# Altium schematic symbol library RoBeast_Schematic_Library.SchLib: 131 symbols (part 5 of 5)
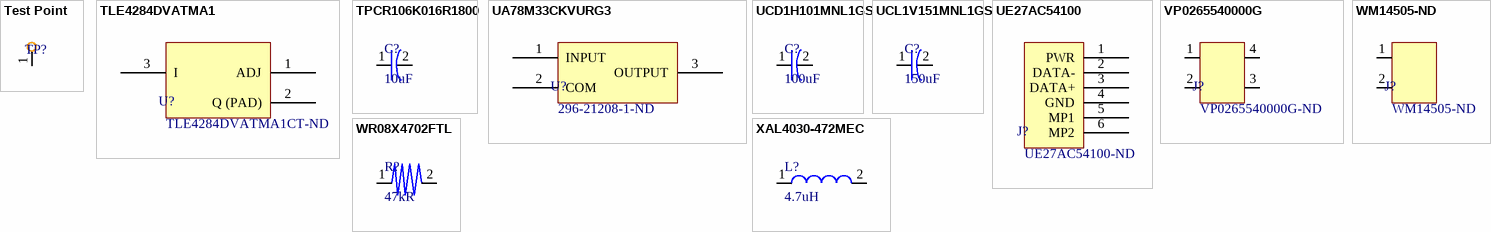
[diagram p7: symbols Test Point to XAL4030-472MEC]

## TLE4284DVATMA1
designator U?, comment Supplier Part Number 1: TLE4284DVATMA1CT-ND  (hidden comment: Linear Regulator)
Adjustable Positive LDO Regulator, 1.25V Min, 35V Max, 1.4V Dropout, BIPolar, PSSO3; Manufacturer: Infineon; Manufacturer Part Number: TLE4284DV; Package Body Material: Plastic; Input-Output Voltage Differential-Max: 40V; Input-Output Voltage Differential-Min: 3V; Number of Functions: 1; Regulator Type: ADJUSTABLE POSITIVE SINGLE OUTPUT LDO REGULATOR; Dropout Voltage1-Nom: 2.2V; Line Regulation-Max (%/V): 0.027; Load Regulation-Max(%): 1.5%; Output Current1-Max: 800mA; Package Equivalence Code: SMSIP3H,.38,90TB; Qualification Status: Not Qualified; Supplier 1: Digikey; RoHS: Yes; Category: Uncategorized; Stock 1: 11903; Pricing 1: 1=1.9, 10=1.706, 25=1.6096, 100=1.3712, 250=1.28756, 500=1.1266, 1000=0.93347 (USD); Package Code: TO-252; Number of Pins: 3; Package Shape: Rectangular; Terminal Finish: Tin; Dropout Voltage1-Max: 1.4V; Operating Temperature, TJ-Max: 150°C; Operating Temperature, TJ-Min: -40°C; Output Voltage1-Min: 1.25V; Package Style: SMALL OUTLINEMeter; Surface Mount: Yes; Terminal Form: Gull Wing; Terminal Position: SINGLE; JESD-609 Code: e3; Adjustability: ADJUSTABLE; Moisture Sensitivity Level: 1; Number of Outputs: 1; Output Voltage1-Max: 35V; Peak Reflow Temperature (Cel): 260°C; Technology: BIPOLAR; Length: 6.5mm; Width: 6.22mm; Height - Seated (Max): 2.35mm; Terminal Pitch: 2.28mm; Reach SVHC Compliant: No; RoHS Compliant: Yes; ComponentLink1URL: https://datasheet.ciiva.com:443/pdfs/VipMasterIC/IC/INFN/INFNS12905/INFNS12905-1.pdf?src-supplier=IHS+Markit; ComponentLink1Description: https://datasheet.ciiva.com:443/pdfs/VipMasterIC/IC/INFN/INFNS12905/INFNS12905-1.pdf?src-supplier=IHS+Markit; ComponentLink2URL: https://datasheet.ciiva.com/41439/001183750-da-01-en-ic-reg-ldo-adj-1a-tle4284dv-to-252-3-inf-41439516.pdf?src-supplier=Conrad; ComponentLink2Description: https://datasheet.ciiva.com/41439/001183750-da-01-en-ic-reg-ldo-adj-1a-tle4284dv-to-252-3-inf-41439516.pdf?src-supplier=Conrad; ComponentLink3URL: https://datasheet.ciiva.com/2049/infineon-tle4284-ds-v02-01-en-2049124.pdf?src-supplier=Digikey; ComponentLink3Description: https://datasheet.ciiva.com/2049/infineon-tle4284-ds-v02-01-en-2049124.pdf?src-supplier=Digikey; ComponentLink4URL: https://datasheet.ciiva.com/2049/infineon-tle4284-ds-v02-01-en-2049125.pdf?src-supplier=Digikey; ComponentLink4Description: https://datasheet.ciiva.com/2049/infineon-tle4284-ds-v02-01-en-2049125.pdf?src-supplier=Digikey; ComponentLink5URL: https://datasheet.ciiva.com/2049/infineon-tle4284-ds-v02-01-en-2049123.pdf?src-supplier=Digikey; ComponentLink5Description: https://datasheet.ciiva.com/2049/infineon-tle4284-ds-v02-01-en-2049123.pdf?src-supplier=Digikey
footprint TLE4284DVATMA1
pins: 1 ADJ, 2 Q (PAD), 3 I

## TPCR106K016R1800
designator C?, comment 10uF
Tantalum Capacitor, Polarized, Tantalum (dry/solid), 16V, 10% +Tol, 10% -Tol, 10uF, Surface Mount, 0805; Manufacturer: Kyocera AVX; Manufacturer Part Number: TPCR106K016R1800; ESR (Equivalent Series Resistance): 1.8R; Leakage Current: 1.6uA; Ripple Current: 142mA; Tan Delta: 0.1; Supplier 1: Digikey; RoHS: Yes; Category: Tantalum Capacitors; Stock 1: 25365; Pricing 1: 1=3.12, 10=2.394, 50=2.1994, 100=1.8236, 500=1.46622, 1000=1.28295 (USD); Mount: Surface Mount; Number of Pins: 2; Dielectric Material: Tantalum; Package Shape: Rectangular; Size Code: 0805; Terminal Finish: Tin; Min Operating Temperature: -55°C; Max Operating Temperature: 125°C; JESD-609 Code: e3; Polarity: Polarized; Capacitance: 10uF; Capacitor Type: Tantalum; Negative Tolerance: 10%; Package Style: SMTMeter; Packaging: Tape and Reel; Positive Tolerance: 10%; Rated DC Voltage (URdc): 16V; Termination: Wraparound; Length: 2mm; Width: 1.35mm; Height: 1.35mm; Reach SVHC Compliant: Yes; RoHS Compliant: Yes; ComponentLink1URL: https://datasheet.ciiva.com:443/pdfs/VipMasterIC/IC/AVXC/AVXC-S-A0008508031/AVXC-S-A0008508031-1.pdf?src-supplier=IHS+Markit; ComponentLink1Description: https://datasheet.ciiva.com:443/pdfs/VipMasterIC/IC/AVXC/AVXC-S-A0008508031/AVXC-S-A0008508031-1.pdf?src-supplier=IHS+Markit; ComponentLink2URL: https://datasheet.ciiva.com/29504/tpc-29504093.pdf?src-supplier=Digikey; ComponentLink2Description: https://datasheet.ciiva.com/29504/tpc-29504093.pdf?src-supplier=Digikey; ComponentLink3URL: https://datasheet.ciiva.com/29504/tpc-29504094.pdf?src-supplier=Digikey; ComponentLink3Description: https://datasheet.ciiva.com/29504/tpc-29504094.pdf?src-supplier=Digikey; ComponentLink4URL: https://datasheet.ciiva.com/29504/tpc-29504095.pdf?src-supplier=Digikey; ComponentLink4Description: https://datasheet.ciiva.com/29504/tpc-29504095.pdf?src-supplier=Digikey; ComponentLink5URL: https://datasheet.ciiva.com/16514/tpc-16514165.pdf?src-supplier=Future+Electronics; ComponentLink5Description: https://datasheet.ciiva.com/16514/tpc-16514165.pdf?src-supplier=Future+Electronics; Supplier Part Number 1: 478-9014-1-ND
footprint 0805 Polarity
pins: 1, 2

## UA78M33CKVURG3
designator U?, comment Supplier Part Number 1: 296-21208-1-ND  (hidden comment: Fixed 3V3 Voltage Regulator)
Fixed Positive Standard Regulator, 3.3VBIPolar, PSSO2; Manufacturer: Texas Instruments; Manufacturer Part Number: UA78M33CKVURG3; Package Body Material: Plastic; Dropout Voltage1-Nom: 2V; Input Voltage Absolute-Max: 35V; Max Input Voltage: 25V; Min Input Voltage: 5.3V; Line Regulation-Max: 0.1%; Number of Functions: 1; Output Current1-Max: 500mA; Output Voltage1-Max: 3.5V; Output Voltage1-Min: 3.1V; Output Voltage1-Nom: 3.3V; Package Equivalence Code: SMSIP3H,.38,90TB; Regulator Type: FIXED POSITIVE SINGLE OUTPUT STANDARD REGULATOR; Voltage Tolerance-Max: 6%; Qualification Status: Not Qualified; Supplier 1: Digikey; RoHS: Yes; Category: Voltage Regulators - Linear; Stock 1: 58004; Pricing 1: 1=0.59, 10=0.517, 25=0.4852, 100=0.3961, 250=0.36792, 500=0.31312, 1000=0.2505 (USD); Package Code: TO-252; Number of Pins: 2; Package Shape: Rectangular; Terminal Finish: Tin; JESD-609 Code: e3; Adjustability: FIXED; JESD-30 Code: R-PSSO-G2; Load Regulation-Max: 0.1%; Moisture Sensitivity Level: 3; Number of Outputs: 1; Operating Temperature, TJ-Max: 125°C; Operating Temperature, TJ-Min: 0°C; Package Style: SMALL OUTLINE, HEAT SINK/SLUGMeter; Packaging: Tape and Reel; Peak Reflow Temperature (Cel): 260°C; Surface Mount: Yes; Technology: BIPOLAR; Terminal Form: Gull Wing; Terminal Position: SINGLE; Length: 6.6mm; Width: 6.095mm; Height - Seated (Max): 2.52mm; Terminal Pitch: 2.29mm; Reach SVHC Compliant: Yes; RoHS Compliant: Yes; ComponentLink1URL: https://www.ti.com:443/lit/ds/symlink/ua78m.pdf?src-supplier=IHS+Markit; ComponentLink1Description: https://www.ti.com:443/lit/ds/symlink/ua78m.pdf?src-supplier=IHS+Markit; ComponentLink2URL: https://datasheet.ciiva.com/1512/1882046-1512317.pdf?src-supplier=Element14; ComponentLink2Description: https://datasheet.ciiva.com/1512/1882046-1512317.pdf?src-supplier=Element14; ComponentLink3URL: https://datasheet.ciiva.com/46394/1882046-46394975.pdf?src-supplier=Element14; ComponentLink3Description: https://datasheet.ciiva.com/46394/1882046-46394975.pdf?src-supplier=Element14; ComponentLink4URL: https://datasheet.ciiva.com/2042/ua78m05-2042378.pdf?src-supplier=Digikey; ComponentLink4Description: https://datasheet.ciiva.com/2042/ua78m05-2042378.pdf?src-supplier=Digikey; ComponentLink5URL: https://datasheet.ciiva.com/2042/ua78m05-2042377.pdf?src-supplier=Digikey; ComponentLink5Description: https://datasheet.ciiva.com/2042/ua78m05-2042377.pdf?src-supplier=Digikey; ComponentLink6URL: https://datasheet.ciiva.com/2042/ua78m05-2042376.pdf?src-supplier=Digikey; ComponentLink6Description: https://datasheet.ciiva.com/2042/ua78m05-2042376.pdf?src-supplier=Digikey
footprint UA78M33CKVURG3
pins: 1 INPUT, 2 COM, 3 OUTPUT

## UCD1H101MNL1GS
designator C?, comment 100uF
Aluminum Electrolytic Capacitor, Polarized, Aluminum (wet), 50V, 20% +Tol, 20% -Tol, 100uF, Surface Mount, 3333; Manufacturer: Nichicon; Manufacturer Part Number: UCD1H101MNL1GS; Dielectric Material: Aluminium; Leakage Current: 50uA; Ripple Current: 175mA; Tan Delta: 0.1; Supplier 1: Digikey; RoHS: Yes; Category: Aluminum Electrolytic Capacitors; Stock 1: 10305; Pricing 1: 1=0.64, 10=0.45, 50=0.379, 100=0.3086 (USD); Mount: Surface Mount; Number of Pins: 2; Package Shape: Cylindrical; Size Code: 3333; Terminal Finish: Copper; Min Operating Temperature: -55°C; Max Operating Temperature: 105°C; JESD-609 Code: e6; Polarity: Polarized; Capacitance: 100uF; Capacitor Type: Aluminium; Negative Tolerance: 20%; Package Style: SMTMeter; Packaging: Tape and Reel; Positive Tolerance: 20%; Rated DC Voltage (URdc): 50V; Termination: Flat; Length: 8.9mm; Width: 8.3mm; Height: 10mm; Reach SVHC Compliant: No; RoHS Compliant: Yes; ComponentLink1URL: https://datasheet.ciiva.com:443/pdfs/VipMasterIC/IC/NICH/NICH-S-A0003527725/NICH-S-A0003527725-1.pdf?src-supplier=IHS+Markit; ComponentLink1Description: https://datasheet.ciiva.com:443/pdfs/VipMasterIC/IC/NICH/NICH-S-A0003527725/NICH-S-A0003527725-1.pdf?src-supplier=IHS+Markit; ComponentLink2URL: https://datasheet.ciiva.com/11776/0900766b80ebdadd-11776792.pdf?src-supplier=Rs; ComponentLink2Description: https://datasheet.ciiva.com/11776/0900766b80ebdadd-11776792.pdf?src-supplier=Rs; ComponentLink3URL: https://datasheet.ciiva.com/5360/e-cd-22158-5360840.pdf?src-supplier=Mouser; ComponentLink3Description: https://datasheet.ciiva.com/5360/e-cd-22158-5360840.pdf?src-supplier=Mouser; ComponentLink4URL: https://datasheet.ciiva.com/6301/e-cd-6301305.pdf?src-supplier=Digikey; ComponentLink4Description: https://datasheet.ciiva.com/6301/e-cd-6301305.pdf?src-supplier=Digikey; Supplier Part Number 1: 493-6388-1-ND
footprint UCD1H101MNL1GS
pins: 1, 2

## UCL1V151MNL1GS
designator C?, comment 150uF
Aluminum Electrolytic Capacitor, Polarized, Aluminum (wet), 35V, 20% +Tol, 20% -Tol, 150uF, Surface Mount, 3333; Manufacturer: Nichicon; Manufacturer Part Number: UCL1V151MNL1GS; Dielectric Material: Aluminium; Leakage Current: 52.5uA; Ripple Current: 425mA; Tan Delta: 0.12; Supplier: Digikey; Supplier Part Number: 493-3955-1-ND; RoHS: Yes; Category: Aluminum Electrolytic Capacitors; Stock: 5528; Pricing: 1=0.84, 10=0.587, 50=0.4944, 100=0.4025 (USD); Mounting Technology: Surface Mount; Pins: 2; Package Shape: Cylindrical; Case/Package: 3333; Terminal Finish: Copper; Min Operating Temperature: -55°C; Max Operating Temperature: 105°C; JESD-609 Code: e6; Polarity: Polarized; Value: 150uF; Capacitor Type: Aluminium; Tolerance  (fill in as +-): 20%; Package Style: SMTMeter; Packaging: Tape and Reel; Tolerance (fill in as +-): 20%; Rated DC Voltage (URdc): 35V; Termination: Flat; Length: 8.9mm; Width: 8.3mm; Height: 10mm; Reach SVHC Compliant: No; RoHS Compliant: Yes; ComponentLink1URL: https://datasheet.ciiva.com:443/pdfs/VipMasterIC/IC/NICH/NICH-S-A0009240536/NICH-S-A0009240536-1.pdf?src-supplier=IHS+Markit; ComponentLink1Description: https://datasheet.ciiva.com:443/pdfs/VipMasterIC/IC/NICH/NICH-S-A0009240536/NICH-S-A0009240536-1.pdf?src-supplier=IHS+Markit; ComponentLink2URL: https://datasheet.ciiva.com/102/e-cl-102009.pdf?src-supplier=Digikey; ComponentLink2Description: https://datasheet.ciiva.com/102/e-cl-102009.pdf?src-supplier=Digikey; ComponentLink3URL: https://datasheet.ciiva.com/102/e-cl-102010.pdf?src-supplier=Digikey; ComponentLink3Description: https://datasheet.ciiva.com/102/e-cl-102010.pdf?src-supplier=Digikey; ComponentLink4URL: https://datasheet.ciiva.com/102/e-cl-102011.pdf?src-supplier=Digikey; ComponentLink4Description: https://datasheet.ciiva.com/102/e-cl-102011.pdf?src-supplier=Digikey; ComponentLink5URL: https://datasheet.ciiva.com/7793/e-cl-7793212.pdf?src-supplier=Element14; ComponentLink5Description: https://datasheet.ciiva.com/7793/e-cl-7793212.pdf?src-supplier=Element14
footprint UCL1V151MNL1GS
pins: 1, 2

## UE27AC54100
designator J?, comment Supplier Part Number 1: UE27AC54100-ND  (hidden comment: USB Connector)
Conn USB 2.0 Type A RCP 4 POS 2mm/2.5mm Solder RA Thru-Hole 4 Terminal 1 Port; Manufacturer: Amphenol ICC / FCI; Manufacturer Part Number: UE27AC54100; Supplier 1: Digikey; RoHS: No; Category: USB Connectors; Stock 1: 20038; Pricing 1: 1=0.75, 10=0.633, 25=0.6072, 40=0.5945, 120=0.56858, 240=0.51692, 480=0.46523, 960=0.41353, 2400=0.37477 (USD)
footprint UE27AC54100
pins: 1 PWR, 2 DATA-, 3 DATA+, 4 GND, 5 MP1, 6 MP2

## VP0265540000G
designator J?, comment Supplier Part Number 1: VP0265540000G-ND  (hidden comment: 2 Pin Connector)
VP10.16-2P slot screws Cr3+ zinc, solder foot bright tin, steel stamping clamp; Manufacturer: Amphenol; Manufacturer Part Number: VP0265540000G; Supplier 1: Digikey; RoHS: Yes; Category: Terminal Blocks; Stock 1: 1415; Pricing 1: 1=2.6, 10=1.97, 100=1.6019, 2030=1.08126, 6090=1.02119 (USD); Terminal and Terminal Block Type: BARRIER STRIP TERMINAL BLOCK; RoHS Compliant: Yes; Reach SVHC Compliant: Yes; ComponentLink1URL: https://datasheet.ciiva.com:443/pdfs/VipMasterIC/IC/AMPH/AMPH-S-A0005047712/AMPH-S-A0005047712-1.pdf?src-supplier=IHS+Markit; ComponentLink1Description: https://datasheet.ciiva.com:443/pdfs/VipMasterIC/IC/AMPH/AMPH-S-A0005047712/AMPH-S-A0005047712-1.pdf?src-supplier=IHS+Markit; ComponentLink2URL: http://portal.fciconnect.com/Comergent//fci/drawing/vpxx65x400j0g.pdf?src-supplier=Digikey; ComponentLink2Description: http://portal.fciconnect.com/Comergent//fci/drawing/vpxx65x400j0g.pdf?src-supplier=Digikey
footprint VP0265540000G
pins: 1, 2, 3, 4

## WM14505-ND
designator J?, comment Supplier Part Number 1: WM14505-ND  (hidden comment: 2 Pin Connector)
Board Connector, 2 Contact(s), 2 Row(s), Male, Right Angle, Solder Terminal; Manufacturer: Molex; Manufacturer Part Number: 0026013114; Mixed Contacts: No; Number of Contacts: 2; Option: General Purpose; Mating Information: MULTIPLE MATING PARTS AVAILABLE; Supplier: Mouser; RoHS: Yes; Stock: 22788; Pricing: 1=1.12, 10=0.793, 50=0.793, 100=0.704, 1000=0.635, 10000=0.528 (USD); Mounting Technology: Board; Contact Material: Brass; Contact Finish - Mating: GOLD; Contact Finish - Termination: Matte Tin (Sn); Connector Type: BOARD CONNECTOR; JESD-609 Code: e3; Contact Gender: Male; Mounting Style: RIGHT ANGLE; Termination: Solder; Filter Feature: No; Number of Rows Loaded: 2; Flammability Rating: UL94 V-2; Reach SVHC Compliant: Yes; RoHS Compliant: Yes; DIN Conformance: No; IEC Conformance: No; MIL Conformance: No; ComponentLink1URL: https://datasheet.ciiva.com:443/pdfs/VipMasterIC/IC/MOLE/MOLE-S-A0006764423/MOLE-S-A0006865681-1.pdf?src-supplier=IHS+Markit; ComponentLink1Description: https://datasheet.ciiva.com:443/pdfs/VipMasterIC/IC/MOLE/MOLE-S-A0006764423/MOLE-S-A0006865681-1.pdf?src-supplier=IHS+Markit; Supplier 1: Digikey; Supplier Part Number: 538-26-01-3114
footprint WM14505-ND
pins: 1, 2

## WR08X4702FTL
designator R?, comment 47kR
Fixed Resistor, Metal Glaze/thick Film, 0.125W, 47000ohm, 150V, 1% +/-Tol, 100ppm/Cel, Surface Mount, 0805; Manufacturer: Walsin Technologies; Manufacturer Part Number: WR08X4702FTL; Power: 125mW; Rated Temperature: 70°C; Temperature Coefficient: 100ppm/°C; Package Height: 0.5mm; Package Length: 2mm; Package Width: 1.25mm; Supplier: Digikey; Supplier Part Number: 1292-WR08X4702FTLCT-ND; RoHS: Yes; Category: Chip SMD Resistors; Stock: 4079; Pricing: 1=0.1, 10=0.02, 50=0.0124, 100=0.0103, 500=0.007, 1000=0.00601 (USD); Mounting Technology: Surface Mount; Pins: 2; Package Shape: Rectangular; Case/Package: 0805; Terminal Finish: Nickel; Min Operating Temperature: -55°C; Max Operating Temperature: 155°C; Tolerance: 1%; JESD-609 Code: e3; Resistor Type: FIXED RESISTOR; Packaging: Tape and Reel; Value: 47kR; Termination: Wraparound; Working Voltage: 150V; Construction: Chip; Package Style: SMTMeter; Technology: METAL GLAZE/THICK FILM; Reach SVHC Compliant: Yes; RoHS Compliant: Yes; ComponentLink1URL: https://datasheet.ciiva.com:443/pdfs/VipMasterIC/IC/WATC/WATC-S-A0005256878/WATC-S-A0005256878-1.pdf?src-supplier=IHS+Markit; ComponentLink1Description: https://datasheet.ciiva.com:443/pdfs/VipMasterIC/IC/WATC/WATC-S-A0005256878/WATC-S-A0005256878-1.pdf?src-supplier=IHS+Markit; ComponentLink2URL: http://www.farnell.com/datasheets/1960319.pdf?src-supplier=Farnell; ComponentLink2Description: http://www.farnell.com/datasheets/1960319.pdf?src-supplier=Farnell; ComponentLink3URL: https://www.verical.com/server-webapp/html/getDatasheet?partID=415239&src-supplier=Verical; ComponentLink3Description: https://www.verical.com/server-webapp/html/getDatasheet?partID=415239&src-supplier=Verical; ComponentLink4URL: http://www.farnell.com/datasheets/1960319.pdf?src-supplier=Element14; ComponentLink4Description: http://www.farnell.com/datasheets/1960319.pdf?src-supplier=Element14; ComponentLink5URL: http://www.farnell.com/datasheets/1960319.pdf?src-supplier=Newark; ComponentLink5Description: http://www.farnell.com/datasheets/1960319.pdf?src-supplier=Newark
footprint 0805
pins: 1, 2

## XAL4030-472MEC
designator L?, comment 4.7uH
General Purpose Inductor, 4.7uH, 20%, 1 Element, Composite-Core, SMD, 1616; Manufacturer: Coilcraft; Manufacturer Part Number: XAL4030-472MEC; Case/Size Code: 1515; DC Resistance (DCR): 44.1mR; Inductor Application: POWER INDUCTOR; Number of Functions: 1; Rated Current-Max: 5.1A; Self Resonant Frequency: 36MHz; Shape/Size Description: RECTANGULAR PACKAGE; Shielding: Shielded; Test Frequency: 100kHz; Package Height: 3.1mm; Package Length: 4mm; Reference Standard: AEC-Q200; Supplier 1: DigiKey; RoHS: Yes; Category: Fixed Inductors; Stock 1: 103962; Pricing 1: 1=2.43, 10=2.43, 50=2.43, 100=2.43, 1000=1.11, 10000=1.11 (USD); Number of Pins: 2; Core Material: Composite; Terminal Finish: Tin; Min Operating Temperature: -40°C; Max Operating Temperature: 125°C; Tolerance: 20%; JESD-609 Code: e2; Construction: Chip; Inductance-Nom (L): 4.7uH; Inductor Type: GENERAL PURPOSE INDUCTOR; Package Style: SMTMeter; Packaging: Tape and Reel; Surface Mount: Yes; Terminal Placement: Dual Ended; Termination: One Surface; Package Width: 4mm; Reach SVHC Compliant: Yes; RoHS Compliant: Yes; ComponentLink1URL: https://datasheet.ciiva.com:443/pdfs/VipMasterIC/IC/COLC/COLC-S-A0006757288/COLC-S-A0006757288-1.pdf?src-supplier=IHS+Markit; ComponentLink1Description: https://datasheet.ciiva.com:443/pdfs/VipMasterIC/IC/COLC/COLC-S-A0006757288/COLC-S-A0006757288-1.pdf?src-supplier=IHS+Markit; ComponentLink2URL: https://datasheet.ciiva.com/22701/1681987-22701559.pdf?src-supplier=Element14; ComponentLink2Description: https://datasheet.ciiva.com/22701/1681987-22701559.pdf?src-supplier=Element14; ComponentLink3URL: https://datasheet.ciiva.com/13277/xal4000-270751-13277257.pdf?src-supplier=Mouser; ComponentLink3Description: https://datasheet.ciiva.com/13277/xal4000-270751-13277257.pdf?src-supplier=Mouser; Supplier Part Number 1: 2457-XAL4030-472MEC-ND
footprint XAL4030-472MEC
pins: 1, 2